# Altium schematic symbol library Inductor Iron Adj.Schlib: 1 symbol
Pins are listed as number, name and electrical type; pins without a type are passive.

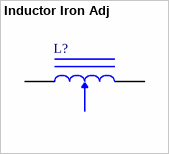
[diagram p0: symbol Inductor Iron Adj]

## Inductor Iron Adj
designator L?
Adjustable Magnetic-Core Inductor
pins: 1, 2